# EAGLE library part TEENSY_LC_FULL (library BMO)
Teensy LC Full Pin Layout
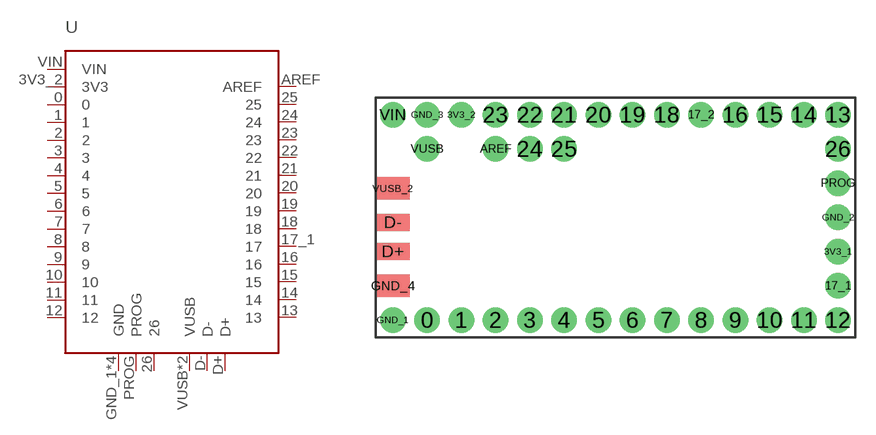
[diagram p4: symbol with the pads of TEENSY_LC_FULL; footprint TEENSY_LC_FULL]

Designator prefix U

## TEENSY_LC_FULL  [TEENSY_LC_FULL]
0  0
1  1
2  2
3  3
3V3_2  3V3
4  4
5  5
6  6
7  7
8  8
9  9
10  10
11  11
12  12
13  13
14  14
15  15
16  16
17_1  17
18  18
19  19
20  20
21  21
22  22
23  23
24  24
25  25
26  26
AREF  AREF
D+  D+
D-  D-
GND_1  GND
GND_2  GND
GND_3  GND
GND_4  GND
PROG  PROG
VIN  VIN
VUSB  VUSB
VUSB_2  VUSB

## Footprint TEENSY_LC_FULL (pad centres in mm)
drill 1.016 pad 1.88: 0 2.54,0; 1 5.08,0; 2 7.62,0; 3 10.16,0; 3V3_1 33.02,5.08; 3V3_2 5.08,15.24; 4 12.7,0; 5 15.24,0; 6 17.78,0; 7 20.32,0; 8 22.86,0; 9 25.4,0; 10 27.94,0; 11 30.48,0; 12 33.02,0; 13 33.02,15.24; 14 30.48,15.24; 15 27.94,15.24; 16 25.4,15.24; 17_1 33.02,2.54; 17_2 22.86,15.24; 18 20.32,15.24; 19 17.78,15.24; 20 15.24,15.24; 21 12.7,15.24; 22 10.16,15.24; 23 7.62,15.24; 24 10.16,12.7; 25 12.7,12.7; 26 33.02,12.7; AREF 7.62,12.7; GND_1 0,0; GND_2 33.02,7.62; GND_3 2.54,15.24; PROG 33.02,10.16; VIN 0,15.24; VUSB 2.54,12.7
smd 2.54 x 1.27: D+ 0,5.08; D- 0,7.239
smd 2.54 x 1.651: GND_4 0,2.54; VUSB_2 0,9.779